# Altium footprint library Components - 02.09.24 - 11.35.PcbLib: 1 footprints
Each footprint in its own frame and in the unit in brackets; x right, y up, seen from the top. Pads: shape width x height; smd on the part's side, far side on the other; paste and mask are expansions set on the pad; w line width, h text height; cw(c..) or ccw(c..) is an arc to the next point about the centre after c.
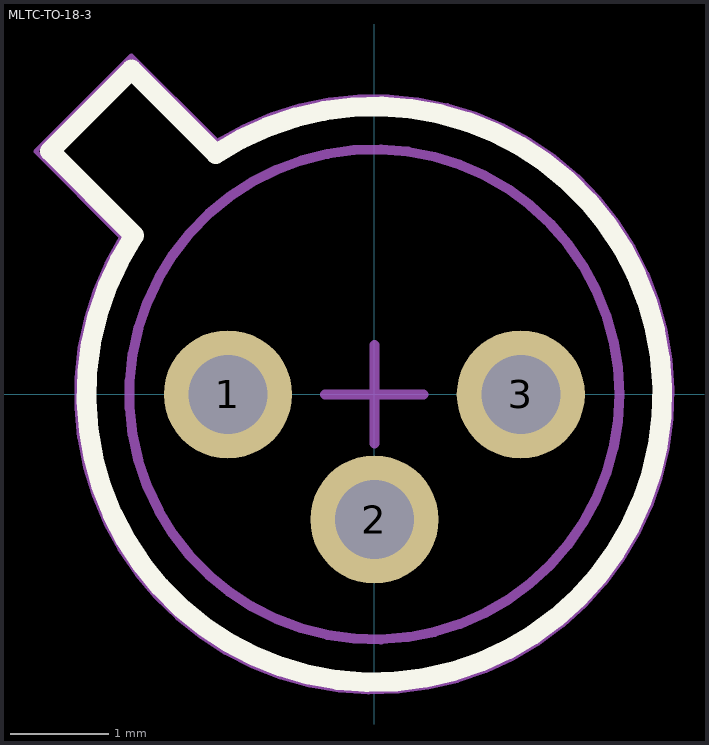
[diagram p0: the footprint, top view; thin cyan lines are the x and y axes]

## MLTC-TO-18-3 [mm] "TO-18, 3-Leads"
height 5.33
pads (3):
  round 1.3 hole 0.8: 1(-1.485,0) 2(0,-1.27) 3(1.485,0)
Top Overlay:
  lines w0.2: -2.435,1.611 -3.29,2.466 -2.463,3.293 -1.607,2.438 cw(c0,0) -2.435,1.611
Mechanical 13:
  circle w0.1: c0,0 r2.485
  lines w0.1: -2.435,1.611 -3.29,2.466 -2.463,3.293 -1.607,2.438 cw(c0,0) -2.435,1.611
Mechanical 15:
  lines w0.05: -2.564,1.596 -3.433,2.464 -2.464,3.433 -1.595,2.563 ; -2.563,1.597 ccw(c0,0) -1.592,2.567
  lines w0.1: -0.5,0 0.5,0 ; 0,-0.5 0,0.5
3D body: height 5.33, standoff 0, extent -2.484,-2.485 2.485,2.484
3D body: height 0.76, standoff 0, extent -3.287,-2.927 2.93,3.29